# EAGLE library part AT91SAM7XXX_64 (library RoboJackets-ICs)
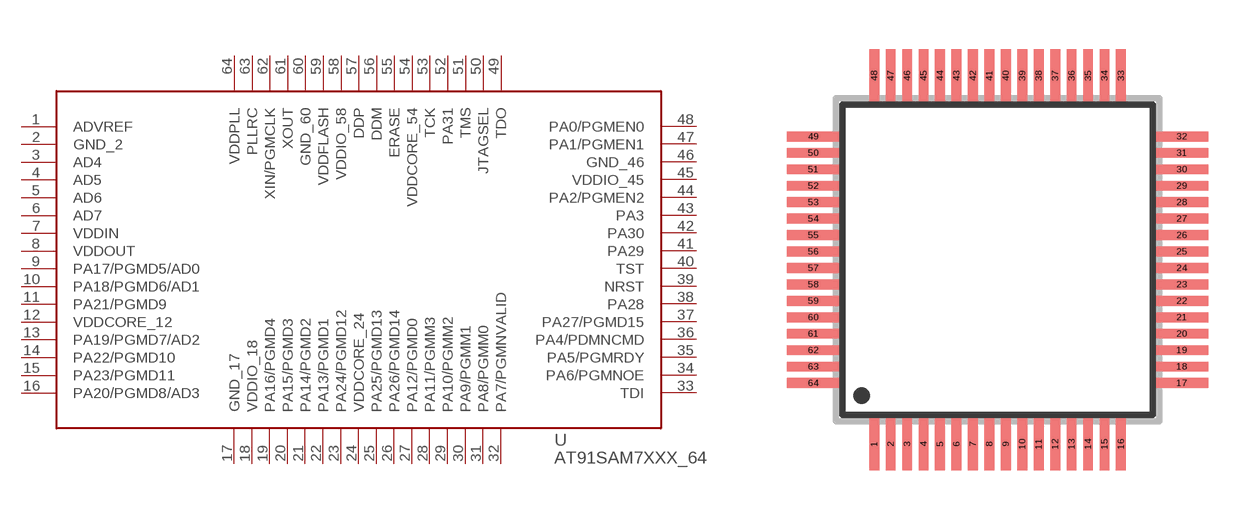
[diagram p5: symbol with the pads of SQFP-S-10X10-64; footprint SQFP-S-10X10-64]

Designator prefix U

## AT91SAM7XXX_64QFP64  [SQFP-S-10X10-64]
1  ADVREF
2  GND_2
3  AD4
4  AD5
5  AD6
6  AD7
7  VDDIN
8  VDDOUT
9  PA17/PGMD5/AD0
10  PA18/PGMD6/AD1
11  PA21/PGMD9
12  VDDCORE_12
13  PA19/PGMD7/AD2
14  PA22/PGMD10
15  PA23/PGMD11
16  PA20/PGMD8/AD3
17  GND_17
18  VDDIO_18
19  PA16/PGMD4
20  PA15/PGMD3
21  PA14/PGMD2
22  PA13/PGMD1
23  PA24/PGMD12
24  VDDCORE_24
25  PA25/PGMD13
26  PA26/PGMD14
27  PA12/PGMD0
28  PA11/PGMM3
29  PA10/PGMM2
30  PA9/PGMM1
31  PA8/PGMM0
32  PA7/PGMNVALID
33  TDI
34  PA6/PGMNOE
35  PA5/PGMRDY
36  PA4/PDMNCMD
37  PA27/PGMD15
38  PA28
39  NRST
40  TST
41  PA29
42  PA30
43  PA3
44  PA2/PGMEN2
45  VDDIO_45
46  GND_46
47  PA1/PGMEN1
48  PA0/PGMEN0
49  TDO
50  JTAGSEL
51  TMS
52  PA31
53  TCK
54  VDDCORE_54
55  ERASE
56  DDM
57  DDP
58  VDDIO_58
59  VDDFLASH
60  GND_60
61  XOUT
62  XIN/PGMCLK
63  PLLRC
64  VDDPLL

## Footprint SQFP-S-10X10-64 (pad centres in mm)
QFP64 shrink quad flat pack, square
smd 0.3 x 1.6: 1 -3.75,-5.6; 2 -3.25,-5.6; 3 -2.75,-5.6; 4 -2.25,-5.6; 5 -1.75,-5.6; 6 -1.25,-5.6; 7 -0.75,-5.6; 8 -0.25,-5.6; 9 0.25,-5.6; 10 0.75,-5.6; 11 1.25,-5.6; 12 1.75,-5.6; 13 2.25,-5.6; 14 2.75,-5.6; 15 3.25,-5.6; 16 3.75,-5.6; 33 3.75,5.6; 34 3.25,5.6; 35 2.75,5.6; 36 2.25,5.6; 37 1.75,5.6; 38 1.25,5.6; 39 0.75,5.6; 40 0.25,5.6; 41 -0.25,5.6; 42 -0.75,5.6; 43 -1.25,5.6; 44 -1.75,5.6; 45 -2.25,5.6; 46 -2.75,5.6; 47 -3.25,5.6; 48 -3.75,5.6
smd 1.6 x 0.3: 17 5.6,-3.75; 18 5.6,-3.25; 19 5.6,-2.75; 20 5.6,-2.25; 21 5.6,-1.75; 22 5.6,-1.25; 23 5.6,-0.75; 24 5.6,-0.25; 25 5.6,0.25; 26 5.6,0.75; 27 5.6,1.25; 28 5.6,1.75; 29 5.6,2.25; 30 5.6,2.75; 31 5.6,3.25; 32 5.6,3.75; 49 -5.6,3.75; 50 -5.6,3.25; 51 -5.6,2.75; 52 -5.6,2.25; 53 -5.6,1.75; 54 -5.6,1.25; 55 -5.6,0.75; 56 -5.6,0.25; 57 -5.6,-0.25; 58 -5.6,-0.75; 59 -5.6,-1.25; 60 -5.6,-1.75; 61 -5.6,-2.25; 62 -5.6,-2.75; 63 -5.6,-3.25; 64 -5.6,-3.75